# Altium schematic symbol library C_ELKO_8x10.SchLib: 1 symbol
Pins are listed as number, name and electrical type; pins without a type are passive.

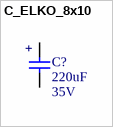
[diagram p0: symbol C_ELKO_8x10]

## C_ELKO_8x10
designator C?, comment 220uF  Voltage: 35V
ALUMINUM ELECTROLYTIC CAPACITOR; Package: 8x10; Value: 220uF; LCSC Part #: C311611
footprint CAPAE9083X105M (Aluminum Electrolytic Capacitor, Body 8,30x8,30x10,50mm, IPC Low Density)
pins: 1, 2
text: +